# EAGLE library part SN75176B (library dmx2rgb)
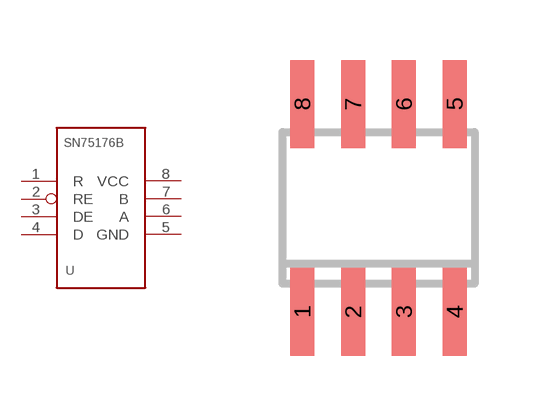
[diagram p4: symbol with the pads of SO8; footprint SO8]

Designator prefix -

## SN75176B  [SO8]
1  R  out
2  RE  in
3  DE  in
4  D  in
5  GND
6  A
7  B
8  VCC

## Footprint SO8 (pad centres in mm)
SMALL OUTLINE INTEGRATED CIRCUIT
smd 0.6 x 2.2: 1 -1.905,-2.6; 2 -0.635,-2.6; 3 0.635,-2.6; 4 1.905,-2.6; 5 1.905,2.6; 6 0.635,2.6; 7 -0.635,2.6; 8 -1.905,2.6